# Altium footprint library P78E05-1000.PcbLib: 1 footprints
Each footprint in its own frame and in the unit in brackets; x right, y up, seen from the top. Pads: shape width x height; smd on the part's side, far side on the other; paste and mask are expansions set on the pad; w line width, h text height; cw(c..) or ccw(c..) is an arc to the next point about the centre after c.
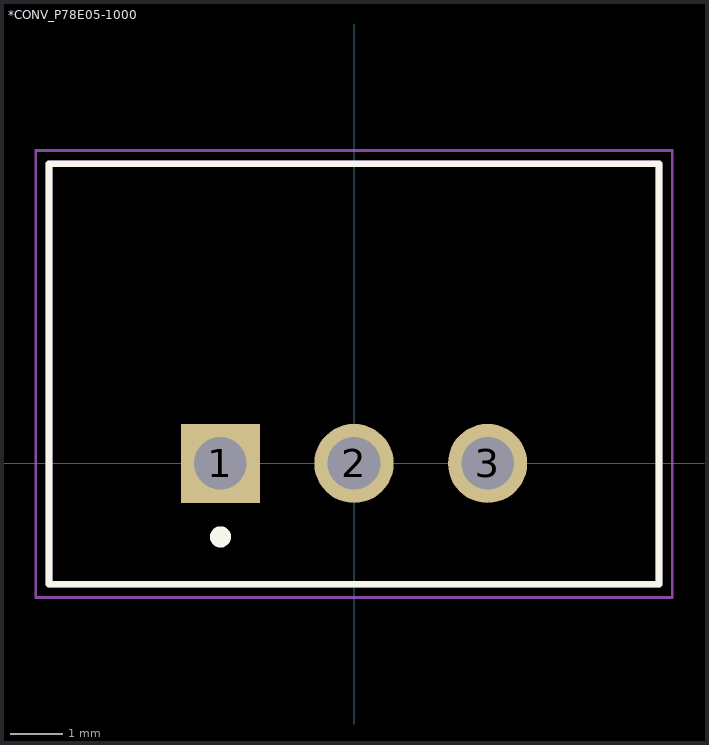
[diagram p0: the footprint, top view; thin cyan lines are the x and y axes]

## *CONV_P78E05-1000 [mm]
pads (3):
  rect 1.508x1.508 hole 1: 1(-2.54,0)
  round 1.508 hole 1: 2(0,0) 3(2.54,0)
Top Overlay:
  circle w0.2: c-2.54,-1.397 r0.1
  lines w0.127: -5.8,-2.3 -5.8,5.7 5.8,5.7 5.8,-2.3 -5.8,-2.3
Mechanical 4:
  lines w0.127: -5.8,-2.3 -5.8,5.7 ; -5.8,-2.3 5.8,-2.3 ; -5.8,-2.3 -5.8,5.7 ; -5.8,-2.3 5.8,-2.3 ; -5.8,5.7 5.8,5.7 ; -5.8,5.7 5.8,5.7 ; 5.8,-2.3 5.8,5.7 ; 5.8,-2.3 5.8,5.7
Mechanical 16:
  lines w0.05: -6.05,-2.55 -6.05,5.95 6.05,5.95 6.05,-2.55 -6.05,-2.55
3D body "CUI_P78E05-1000.step": height 10.41, standoff -4.09, extent -5.758,-2.222 5.842,5.778